# Altium schematic symbol library Beloedov.SchLib: 4 symbols
Pins are listed as number, name and electrical type; pins without a type are passive.

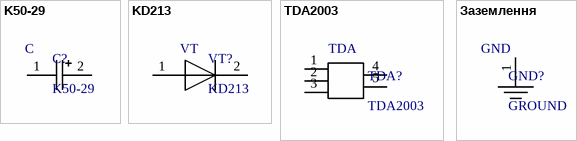
[diagram p0: symbols K50-29 to Заземлення]

## K50-29
designator C?
footprint K50-29
pins: 1, 2
text: C

## KD213
designator VT?
footprint KD213
pins: 1, 2
text: VT

## TDA2003
designator TDA?
footprint TDA2003
pins: 1, 2, 3, 4, 5
text: TDA

## Заземлення
designator GND?, comment GROUND
footprint Заземлення
pins: 1
text: GND